# Altium schematic symbol library XP_USB_4P.Schlib: 1 symbol
Pins are listed as number, name and electrical type; pins without a type are passive.

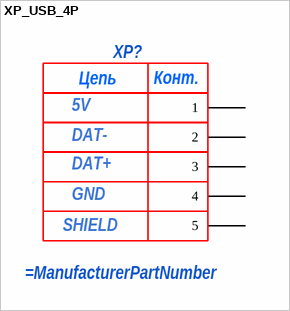
[diagram p0: symbol XP_USB_4P]

## XP_USB_4P
designator XP?
pins: 1, 2, 3, 4, 5
text: Цепь; Конт.; 5V; DAT-; DAT+; GND; SHIELD